# EAGLE library part AD8619 (library ad8619)
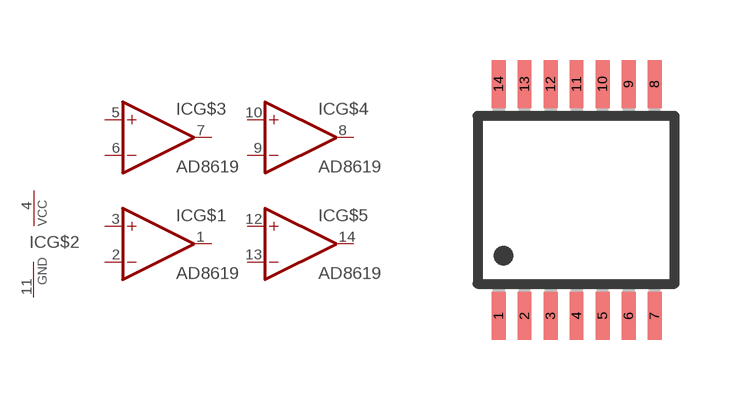
[diagram p0: symbol with the pads of TSSOP14; footprint TSSOP14]

Designator prefix IC; gates G$1=OPAMP G$2=PWRN G$3=OPAMP G$4=OPAMP G$5=OPAMP

## AD8619  [TSSOP14]
1  G$1:OUT  out
2  G$1:-IN  in
3  G$1:+IN  in
4  G$2:VCC  pwr
5  G$3:+IN  in
6  G$3:-IN  in
7  G$3:OUT  out
8  G$4:OUT  out
9  G$4:-IN  in
10  G$4:+IN  in
11  G$2:GND  pwr
12  G$5:+IN  in
13  G$5:-IN  in
14  G$5:OUT  out

## Footprint TSSOP14 (pad centres in mm)
smd 0.35 x 1.2: 1 -2.025,-2.9; 2 -1.375,-2.9; 3 -0.725,-2.9; 4 -0.075,-2.9; 5 0.575,-2.9; 6 1.225,-2.9; 7 1.875,-2.9; 8 1.875,2.9; 9 1.225,2.9; 10 0.575,2.9; 11 -0.075,2.9; 12 -0.725,2.9; 13 -1.375,2.9; 14 -2.025,2.9